# Altium footprint library TestPoint.PcbLib: 2 footprints
Each footprint in its own frame and in the unit in brackets; x right, y up, seen from the top. Pads: shape width x height; smd on the part's side, far side on the other; paste and mask are expansions set on the pad; w line width, h text height; cw(c..) or ccw(c..) is an arc to the next point about the centre after c.
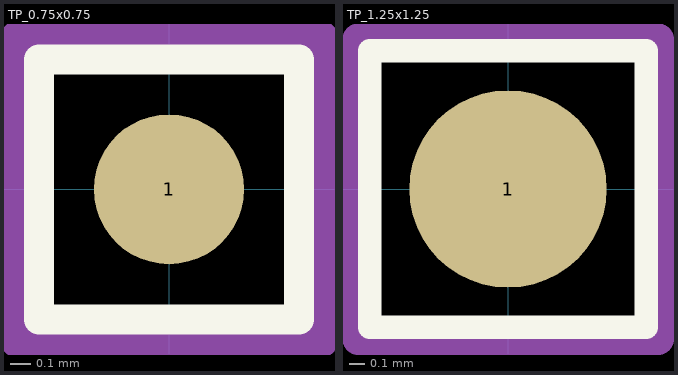
[diagram p0: the footprints below, top view; thin cyan lines are the x and y axes]

## TP_0.75x0.75 [mm]
pads (1):
  round 0.75 smd: 1(0,0)
Top Overlay:
  lines w0.15: -0.65,-0.65 -0.65,0.65 0.65,0.65 0.65,-0.65 -0.65,-0.65
Mechanical 15:
  lines w0.2: -0.25,0 0.25,0 ; 0,-0.25 0,0.25 ; -0.75,-0.747 0.75,-0.747 0.75,0.75 -0.75,0.75 -0.75,-0.747

## TP_1.25x1.25 [mm]
pads (1):
  round 1.25 smd: 1(0,0)
Top Overlay:
  lines w0.15: -0.875,-0.875 -0.875,0.875 0.875,0.875 0.875,-0.875 -0.875,-0.875
Mechanical 15:
  lines w0.2: -0.5,0 0.5,0 ; 0,-0.5 0,0.5 ; -0.95,-0.95 -0.95,0.95 0.95,0.95 0.95,-0.95 -0.95,-0.95